# Altium schematic symbol library libreriaSch.SchLib: 392 symbols (part 2 of 2)
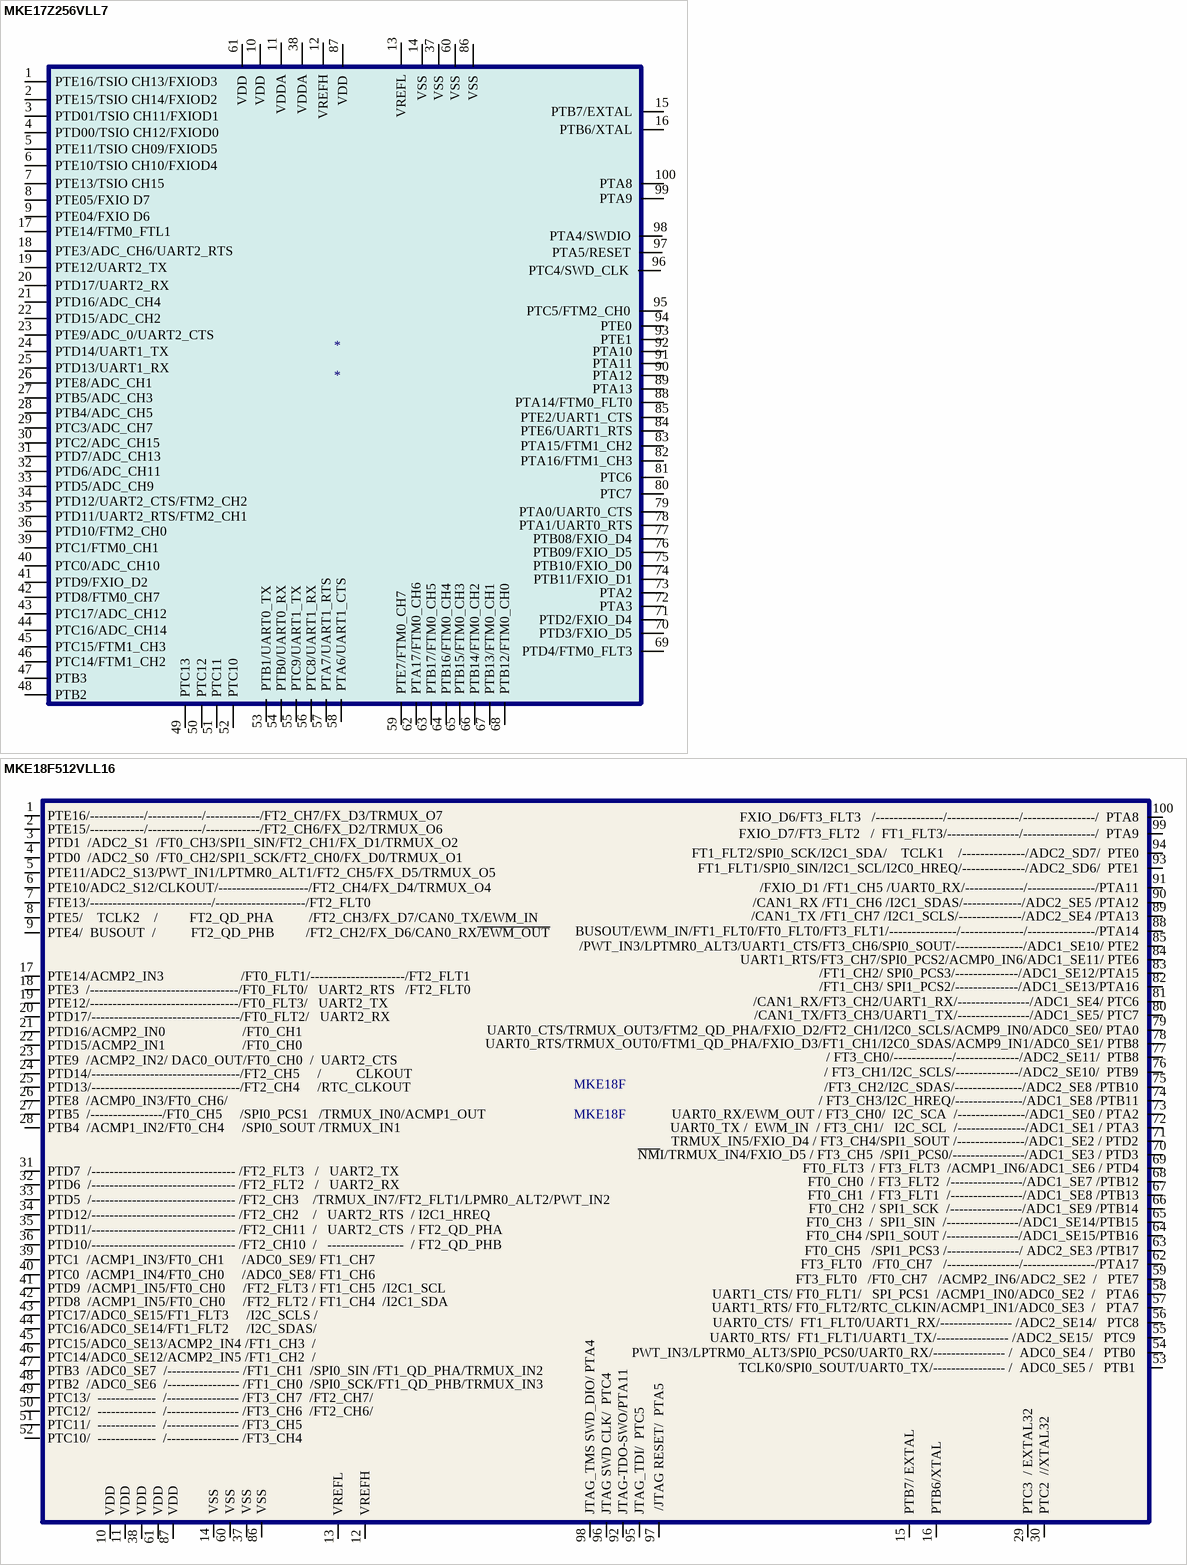
[diagram p16: symbols MKE17Z256VLL7 to MKE18F512VLL16]

## MKE17Z256VLL7
designator *
kINETICS MKE17Z
footprint Model Name (Footprint not found)
footprint LQFP_100
pins: 1 PTE16/TSIO CH13/FXIOD3, 2 PTE15/TSIO CH14/FXIOD2, 3 PTD01/TSIO CH11/FXIOD1, 4 PTD00/TSIO CH12/FXIOD0, 5 PTE11/TSIO CH09/FXIOD5, 6 PTE10/TSIO CH10/FXIOD4, 7 PTE13/TSIO CH15, 8 PTE05/FXIO D7, 9 PTE04/FXIO D6, 10 VDD, 11 VDDA, 12 VREFH, 13 VREFL, 14 VSS, 15 PTB7/EXTAL, 16 PTB6/XTAL, 17 PTE14/FTM0_FTL1, 18 PTE3/ADC_CH6/UART2_RTS, 19 PTE12/UART2_TX, 20 PTD17/UART2_RX, 21 PTD16/ADC_CH4, 22 PTD15/ADC_CH2, 23 PTE9/ADC_0/UART2_CTS, 24 PTD14/UART1_TX, 25 PTD13/UART1_RX, 26 PTE8/ADC_CH1, 27 PTB5/ADC_CH3, 28 PTB4/ADC_CH5, 29 PTC3/ADC_CH7, 30 PTC2/ADC_CH15, 31 PTD7/ADC_CH13, 32 PTD6/ADC_CH11, 33 PTD5/ADC_CH9, 34 PTD12/UART2_CTS/FTM2_CH2, 35 PTD11/UART2_RTS/FTM2_CH1, 36 PTD10/FTM2_CH0, 37 VSS, 38 VDDA, 39 PTC1/FTM0_CH1, 40 PTC0/ADC_CH10, 41 PTD9/FXIO_D2, 42 PTD8/FTM0_CH7, 43 PTC17/ADC_CH12, 44 PTC16/ADC_CH14, 45 PTC15/FTM1_CH3, 46 PTC14/FTM1_CH2, 47 PTB3, 48 PTB2, 49 PTC13, 50 PTC12, 51 PTC11, 52 PTC10, 53 PTB1/UART0_TX, 54 PTB0/UART0_RX, 55 PTC9/UART1_TX, 56 PTC8/UART1_RX, 57 PTA7/UART1_RTS, 58 PTA6/UART1_CTS, 59 PTE7/FTM0_CH7, 60 VSS, 61 VDD, 62 PTA17/FTM0_CH6, 63 PTB17/FTM0_CH5, 64 PTB16/FTM0_CH4, 65 PTB15/FTM0_CH3, 66 PTB14/FTM0_CH2, 67 PTB13/FTM0_CH1, 68 PTB12/FTM0_CH0, 69 PTD4/FTM0_FLT3, 70 PTD3/FXIO_D5, 71 PTD2/FXIO_D4, 72 PTA3, 73 PTA2, 74 PTB11/FXIO_D1, 75 PTB10/FXIO_D0, 76 PTB09/FXIO_D5, 77 PTB08/FXIO_D4, 78 PTA1/UART0_RTS, 79 PTA0/UART0_CTS, 80 PTC7, 81 PTC6, 82 PTA16/FTM1_CH3, 83 PTA15/FTM1_CH2, 84 PTE6/UART1_RTS, 85 PTE2/UART1_CTS, 86 VSS, 87 VDD, 88 PTA14/FTM0_FLT0, 89 PTA13, 90 PTA12, 91 PTA11, 92 PTA10, 93 PTE1, 94 PTE0, 95 PTC5/FTM2_CH0, 96 PTC4/SWD_CLK, 97 PTA5/RESET, 98 PTA4/SWDIO, 99 PTA9, 100 PTA8

## MKE18F512VLL16
designator MKE18F, comment MKE18F
footprint LQFP_100
pins: 1 PTE16/------------/------------/------------/FT2_CH7/FX_D3/TRMUX_O7, 2 PTE15/------------/------------/------------/FT2_CH6/FX_D2/TRMUX_O6, 3 PTD1  /ADC2_S1  /FT0_CH3/SPI1_SIN/FT2_CH1/FX_D1/TRMUX_O2, 4 PTD0  /ADC2_S0  /FT0_CH2/SPI1_SCK/FT2_CH0/FX_D0/TRMUX_O1, 5 PTE11/ADC2_S13/PWT_IN1/LPTMR0_ALT1/FT2_CH5/FX_D5/TRMUX_O5, 6 PTE10/ADC2_S12/CLKOUT/--------------------/FT2_CH4/FX_D4/TRMUX_O4, 7 FTE13/---------------------------/--------------------/FT2_FLT0, 8 PTE5/    TCLK2    /         FT2_QD_PHA          /FT2_CH3/FX_D7/CAN0_TX/EWM_IN, 9 PTE4/  BUSOUT  /          FT2_QD_PHB         /FT2_CH2/FX_D6/CAN0_RX~{/EWM_OUT}, 10 VDD, 11 VDD, 12 VREFH, 13 VREFL, 14 VSS, 15 PTB7/ EXTAL, 16 PTB6/XTAL, 17 PTE14/ACMP2_IN3                      /FT0_FLT1/---------------------/FT2_FLT1, 18 PTE3  /---------------------------------/FT0_FLT0/   UART2_RTS   /FT2_FLT0, 19 PTE12/---------------------------------/FT0_FLT3/   UART2_TX     , 20 PTD17/---------------------------------/FT0_FLT2/   UART2_RX     , 21 PTD16/ACMP2_IN0                      /FT0_CH1  , 22 PTD15/ACMP2_IN1                      /FT0_CH0  , 23 PTE9  /ACMP2_IN2/ DAC0_OUT/FT0_CH0  /  UART2_CTS  , 24 PTD14/---------------------------------/FT2_CH5     /          CLKOUT, 25 PTD13/---------------------------------/FT2_CH4     /RTC_CLKOUT, 26 PTE8  /ACMP0_IN3/FT0_CH6/  , 27 PTB5  /----------------/FT0_CH5     /SPI0_PCS1   /TRMUX_IN0/ACMP1_OUT, 28 PTB4  /ACMP1_IN2/FT0_CH4     /SPI0_SOUT /TRMUX_IN1, 29 PTC3  / EXTAL32, 30 PTC2  //XTAL32, 31 PTD7  /-------------------------------- /FT2_FLT3   /   UART2_TX   , 32 PTD6  /-------------------------------- /FT2_FLT2   /   UART2_RX   , 33 PTD5  /-------------------------------- /FT2_CH3    /TRMUX_IN7/FT2_FLT1/LPMR0_ALT2/PWT_IN2, 34 PTD12/-------------------------------- /FT2_CH2    /   UART2_RTS  / I2C1_HREQ   , 35 PTD11/-------------------------------- /FT2_CH11  /   UART2_CTS  / FT2_QD_PHA  , 36 PTD10/-------------------------------- /FT2_CH10  /   -----------------  / FT2_QD_PHB  , 37 VSS, 38 VDD, 39 PTC1  /ACMP1_IN3/FT0_CH1     /ADC0_SE9/ FT1_CH7, 40 PTC0  /ACMP1_IN4/FT0_CH0     /ADC0_SE8/ FT1_CH6, 41 PTD9  /ACMP1_IN5/FT0_CH0     /FT2_FLT3 / FT1_CH5  /I2C1_SCL, 42 PTD8  /ACMP1_IN5/FT0_CH0     /FT2_FLT2 / FT1_CH4  /I2C1_SDA, 43 PTC17/ADC0_SE15/FT1_FLT3     /I2C_SCLS /, 44 PTC16/ADC0_SE14/FT1_FLT2     /I2C_SDAS/, 45 PTC15/ADC0_SE13/ACMP2_IN4 /FT1_CH3  /, 46 PTC14/ADC0_SE12/ACMP2_IN5 /FT1_CH2  /, 47 PTB3  /ADC0_SE7  /---------------- /FT1_CH1  /SPI0_SIN /FT1_QD_PHA/TRMUX_IN2, 48 PTB2  /ADC0_SE6  /---------------- /FT1_CH0  /SPI0_SCK/FT1_QD_PHB/TRMUX_IN3, 49 PTC13/  -------------  /---------------- /FT3_CH7  /FT2_CH7/, 50 PTC12/  -------------  /---------------- /FT3_CH6  /FT2_CH6/, 51 PTC11/  -------------  /---------------- /FT3_CH5, 52 PTC10/  -------------  /---------------- /FT3_CH4, 53 TCLK0/SPI0_SOUT/UART0_TX/---------------- /  ADC0_SE5 /   PTB1 , 54 PWT_IN3/LPTRM0_ALT3/SPI0_PCS0/UART0_RX/---------------- /  ADC0_SE4 /   PTB0 , 55 UART0_RTS/  FT1_FLT1/UART1_TX/---------------- /ADC2_SE15/   PTC9 , 56 UART0_CTS/  FT1_FLT0/UART1_RX/---------------- /ADC2_SE14/   PTC8, 57 UART1_RTS/ FT0_FLT2/RTC_CLKIN/ACMP1_IN1/ADC0_SE3  /   PTA7, 58 UART1_CTS/ FT0_FLT1/   SPI_PCS1  /ACMP1_IN0/ADC0_SE2  /   PTA6, 59      FT3_FLT0   /FT0_CH7   /ACMP2_IN6/ADC2_SE2  /   PTE7, 60 VSS, 61 VDD, 62      FT3_FLT0   /FT0_CH7   /----------------/----------------/PTA17, 63      FT0_CH5   /SPI1_PCS3 /----------------/ ADC2_SE3 /PTB17, 64      FT0_CH4 /SPI1_SOUT /----------------/ADC1_SE15/PTB16, 65      FT0_CH3  /  SPI1_SIN  /----------------/ADC1_SE14/PTB15, 66      FT0_CH2  / SPI1_SCK  /----------------/ADC1_SE9 /PTB14, 67      FT0_CH1  / FT3_FLT1  /----------------/ADC1_SE8 /PTB13, 68      FT0_CH0  / FT3_FLT2  /----------------/ADC1_SE7 /PTB12, 69      FT0_FLT3  / FT3_FLT3  /ACMP1_IN6/ADC1_SE6 / PTD4, 70 ~{NM}I/TRMUX_IN4/FXIO_D5 / FT3_CH5  /SPI1_PCS0/----------------/ADC1_SE3 / PTD3, 71 TRMUX_IN5/FXIO_D4 / FT3_CH4/SPI1_SOUT /---------------/ADC1_SE2 / PTD2, 72 UART0_TX /  EWM_IN  / FT3_CH1/   I2C_SCL  /---------------/ADC1_SE1 / PTA3, 73 UART0_RX/EWM_OUT / FT3_CH0/  I2C_SCA  /---------------/ADC1_SE0 / PTA2, 74  / FT3_CH3/I2C_HREQ/---------------/ADC1_SE8 /PTB11, 75  /FT3_CH2/I2C_SDAS/---------------/ADC2_SE8 /PTB10, 76  / FT3_CH1/I2C_SCLS/--------------/ADC2_SE10/  PTB9, 77  / FT3_CH0/-------------/--------------/ADC2_SE11/  PTB8, 78 UART0_RTS/TRMUX_OUT0/FTM1_QD_PHA/FXIO_D3/FT1_CH1/I2C0_SDAS/ACMP9_IN1/ADC0_SE1/ PTB8, 79 UART0_CTS/TRMUX_OUT3/FTM2_QD_PHA/FXIO_D2/FT2_CH1/I2C0_SCLS/ACMP9_IN0/ADC0_SE0/ PTA0, 80 /CAN1_TX/FT3_CH3/UART1_TX/----------------/ADC1_SE5/ PTC7, 81 /CAN1_RX/FT3_CH2/UART1_RX/----------------/ADC1_SE4/ PTC6, 82 /FT1_CH3/ SPI1_PCS2/--------------/ADC1_SE13/PTA16, 83 /FT1_CH2/ SPI0_PCS3/--------------/ADC1_SE12/PTA15, 84 UART1_RTS/FT3_CH7/SPI0_PCS2/ACMP0_IN6/ADC1_SE11/ PTE6, 85 /PWT_IN3/LPTMR0_ALT3/UART1_CTS/FT3_CH6/SPI0_SOUT/---------------/ADC1_SE10/ PTE2, 86 VSS, 87 VDD, 88 BUSOUT/EWM_IN/FT1_FLT0/FT0_FLT0/FT3_FLT1/---------------/--------------/---------------/PTA14, 89 /CAN1_TX /FT1_CH7 /I2C1_SCLS/--------------/ADC2_SE4 /PTA13, 90 /CAN1_RX /FT1_CH6 /I2C1_SDAS/-------------/ADC2_SE5 /PTA12, 91 /FXIO_D1 /FT1_CH5 /UART0_RX/-------------/---------------/PTA11, 92 JTAG-TDO-SWO/PTA11, 93 FT1_FLT1/SPI0_SIN/I2C1_SCL/I2C0_HREQ/--------------/ADC2_SD6/  PTE1, 94 FT1_FLT2/SPI0_SCK/I2C1_SDA/    TCLK1    /--------------/ADC2_SD7/  PTE0, 95 JTAG_TDI/  PTC5, 96 JTAG SWD CLK/  PTC4, 97  /JTAG RESET/  PTA5, 98 JTAG_TMS SWD_DIO/ PTA4, 99   FXIO_D7/FT3_FLT2   /  FT1_FLT3/----------------/----------------/  PTA9, 100   FXIO_D6/FT3_FLT3   /---------------/----------------/----------------/  PTA8

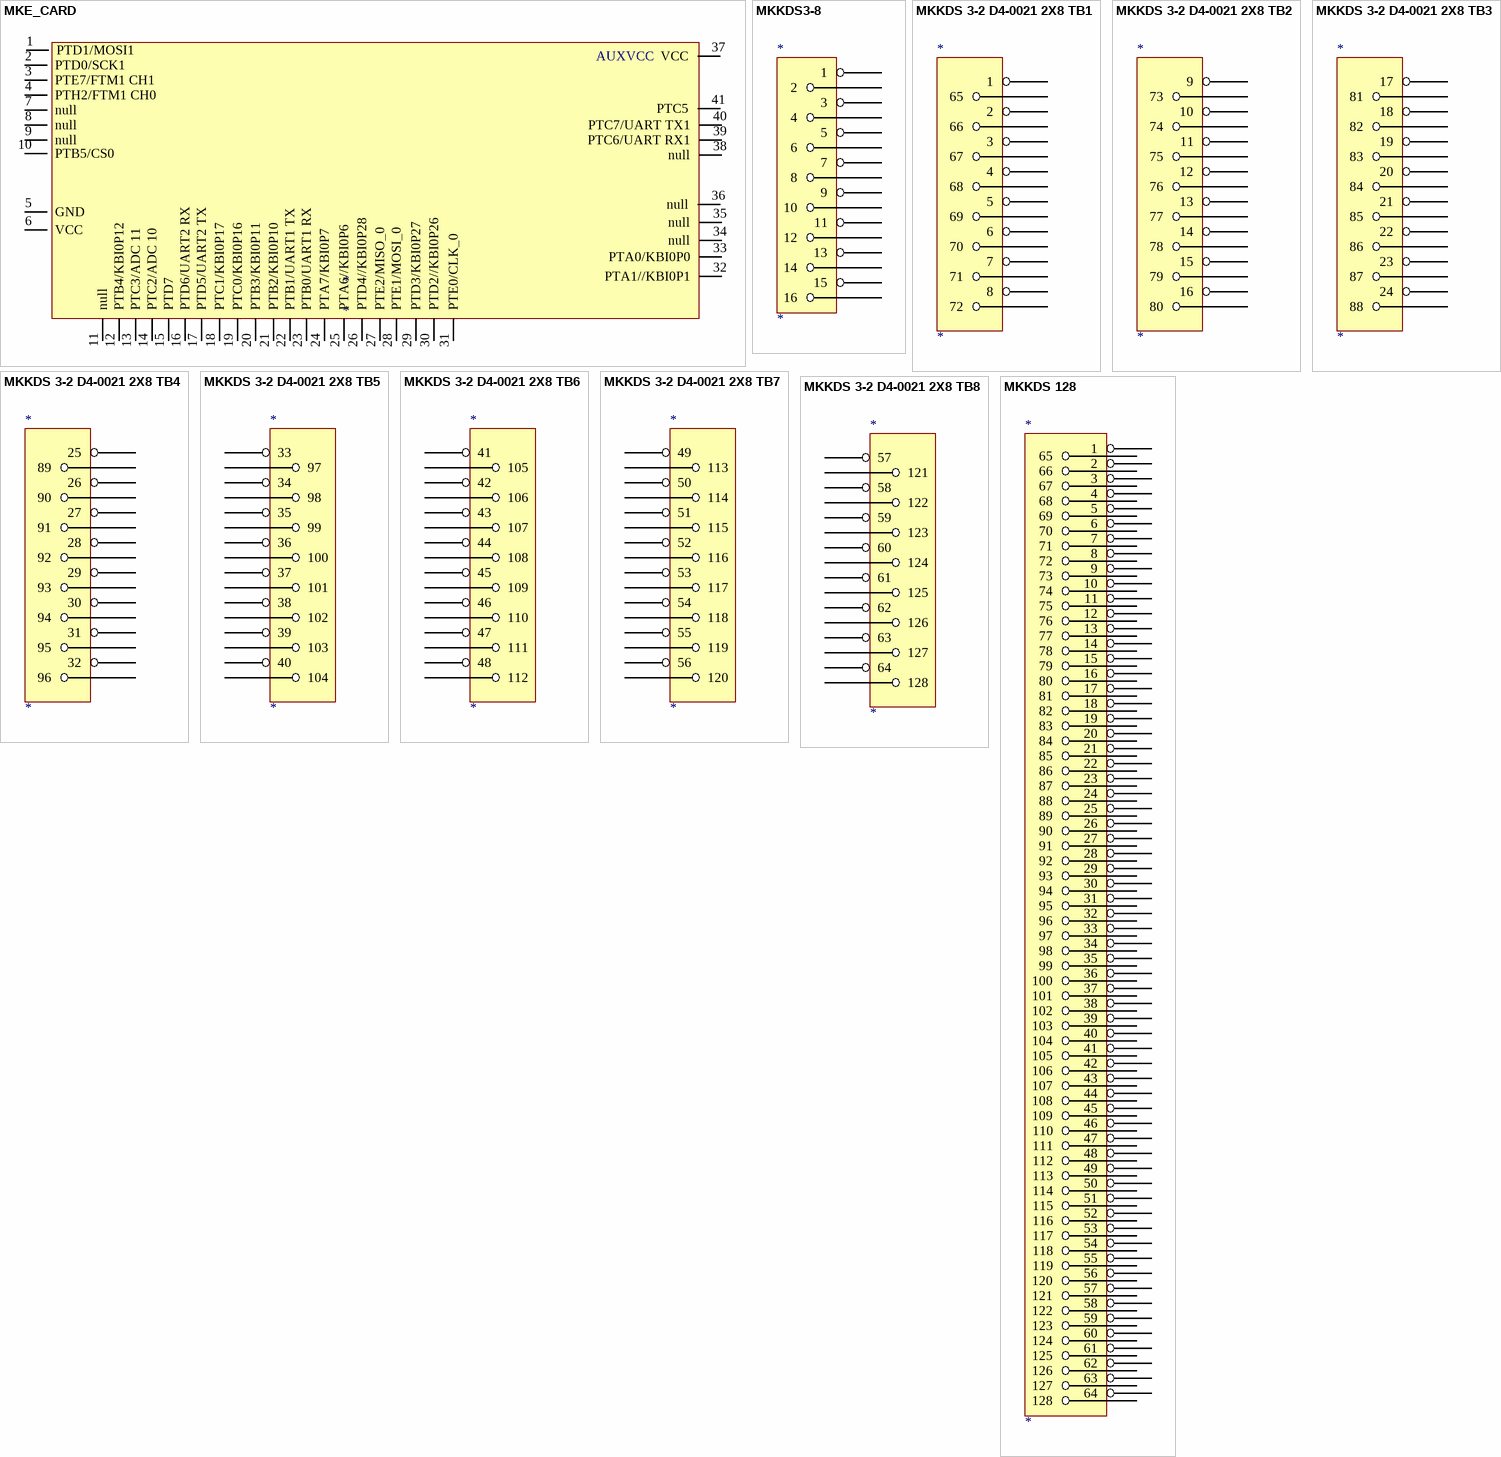
[diagram p10: symbols MKE_CARD to MKKDS 128]

## MKE_CARD
designator *
footprint MKE02ZBoard
pins: 1 PTD1/MOSI1, 2 PTD0/SCK1, 3 PTE7/FTM1 CH1, 4 PTH2/FTM1 CH0, 5 GND (power), 6 VCC (power), 7 null, 8 null, 9 null, 10 PTB5/CS0, 11 null, 12 PTB4/KBI0P12, 13 PTC3/ADC 11, 14 PTC2/ADC 10, 15 PTD7, 16 PTD6/UART2 RX, 17 PTD5/UART2 TX, 18 PTC1/KBI0P17, 19 PTC0/KBI0P16, 20 PTB3/KBI0P11, 21 PTB2/KBI0P10, 22 PTB1/UART1 TX, 23 PTB0/UART1 RX, 24 PTA7/KBI0P7, 25 PTA6//KBI0P6, 26 PTD4//KBI0P28, 27 PTE2/MISO_0, 28 PTE1/MOSI_0, 29 PTD3/KBI0P27, 30 PTD2//KBI0P26, 31 PTE0/CLK_0, 32 PTA1//KBI0P1, 33 PTA0/KBI0P0, 34 null, 35 null, 36 null, 37 VCC, 38 null, 39 PTC6/UART RX1, 40 PTC7/UART TX1, 41 PTC5
text: AUXVCC

## MKKDS3-8
designator *
footprint MKKDS3-8
pins: 1, 2, 3, 4, 5, 6, 7, 8, 9, 10, 11, 12, 13, 14, 15, 16

## MKKDS 3-2 D4-0021 2X8 TB1
designator *
footprint MKKDS3-2 D4-0021 TB1
pins: 1, 2, 3, 4, 5, 6, 7, 8, 65, 66, 67, 68, 69, 70, 71, 72

## MKKDS 3-2 D4-0021 2X8 TB2
designator *
footprint MKKDS3-2 D4-0021 TB2
pins: 9, 10, 11, 12, 13, 14, 15, 16, 73, 74, 75, 76, 77, 78, 79, 80

## MKKDS 3-2 D4-0021 2X8 TB3
designator *
footprint MKKDS3-2 D4-0021 TB3
pins: 17, 18, 19, 20, 21, 22, 23, 24, 81, 82, 83, 84, 85, 86, 87, 88

## MKKDS 3-2 D4-0021 2X8 TB4
designator *
footprint MKKDS3-2 D4-0021 TB4
pins: 25, 26, 27, 28, 29, 30, 31, 32, 89, 90, 91, 92, 93, 94, 95, 96

## MKKDS 3-2 D4-0021 2X8 TB5
designator *
footprint MKKDS3-2 D4-0021 TB5
pins: 33, 34, 35, 36, 37, 38, 39, 40, 97, 98, 99, 100, 101, 102, 103, 104

## MKKDS 3-2 D4-0021 2X8 TB6
designator *
footprint MKKDS3-2 D4-0021 TB6
pins: 41, 42, 43, 44, 45, 46, 47, 48, 105, 106, 107, 108, 109, 110, 111, 112

## MKKDS 3-2 D4-0021 2X8 TB7
designator *
footprint MKKDS3-2 D4-0021 TB7
pins: 49, 50, 51, 52, 53, 54, 55, 56, 113, 114, 115, 116, 117, 118, 119, 120

## MKKDS 3-2 D4-0021 2X8 TB8
designator *
footprint MKKDS3-2 D4-0021 TB8
pins: 57, 58, 59, 60, 61, 62, 63, 64, 121, 122, 123, 124, 125, 126, 127, 128

## MKKDS 128
designator *
footprint MKKDS128
pins: 1, 2, 3, 4, 5, 6, 7, 8, 9, 10, 11, 12, 13, 14, 15, 16, 17, 18, 19, 20, 21, 22, 23, 24, 25, 26, 27, 28, 29, 30, 31, 32, 33, 34, 35, 36, 37, 38, 39, 40, 41, 42, 43, 44, 45, 46, 47, 48, 49, 50, 51, 52, 53, 54, 55, 56, 57, 58, 59, 60, 61, 62, 63, 64, 65, 66, 67, 68, 69, 70, 71, 72, 73, 74, 75, 76, 77, 78, 79, 80, 81, 82, 83, 84, 85, 86, 87, 88, 89, 90, 91, 92, 93, 94, 95, 96, 97, 98, 99, 100, 101, 102, 103, 104, 105, 106, 107, 108, 109, 110, 111, 112, 113, 114, 115, 116, 117, 118, 119, 120, 121, 122, 123, 124, 125, 126, 127, 128

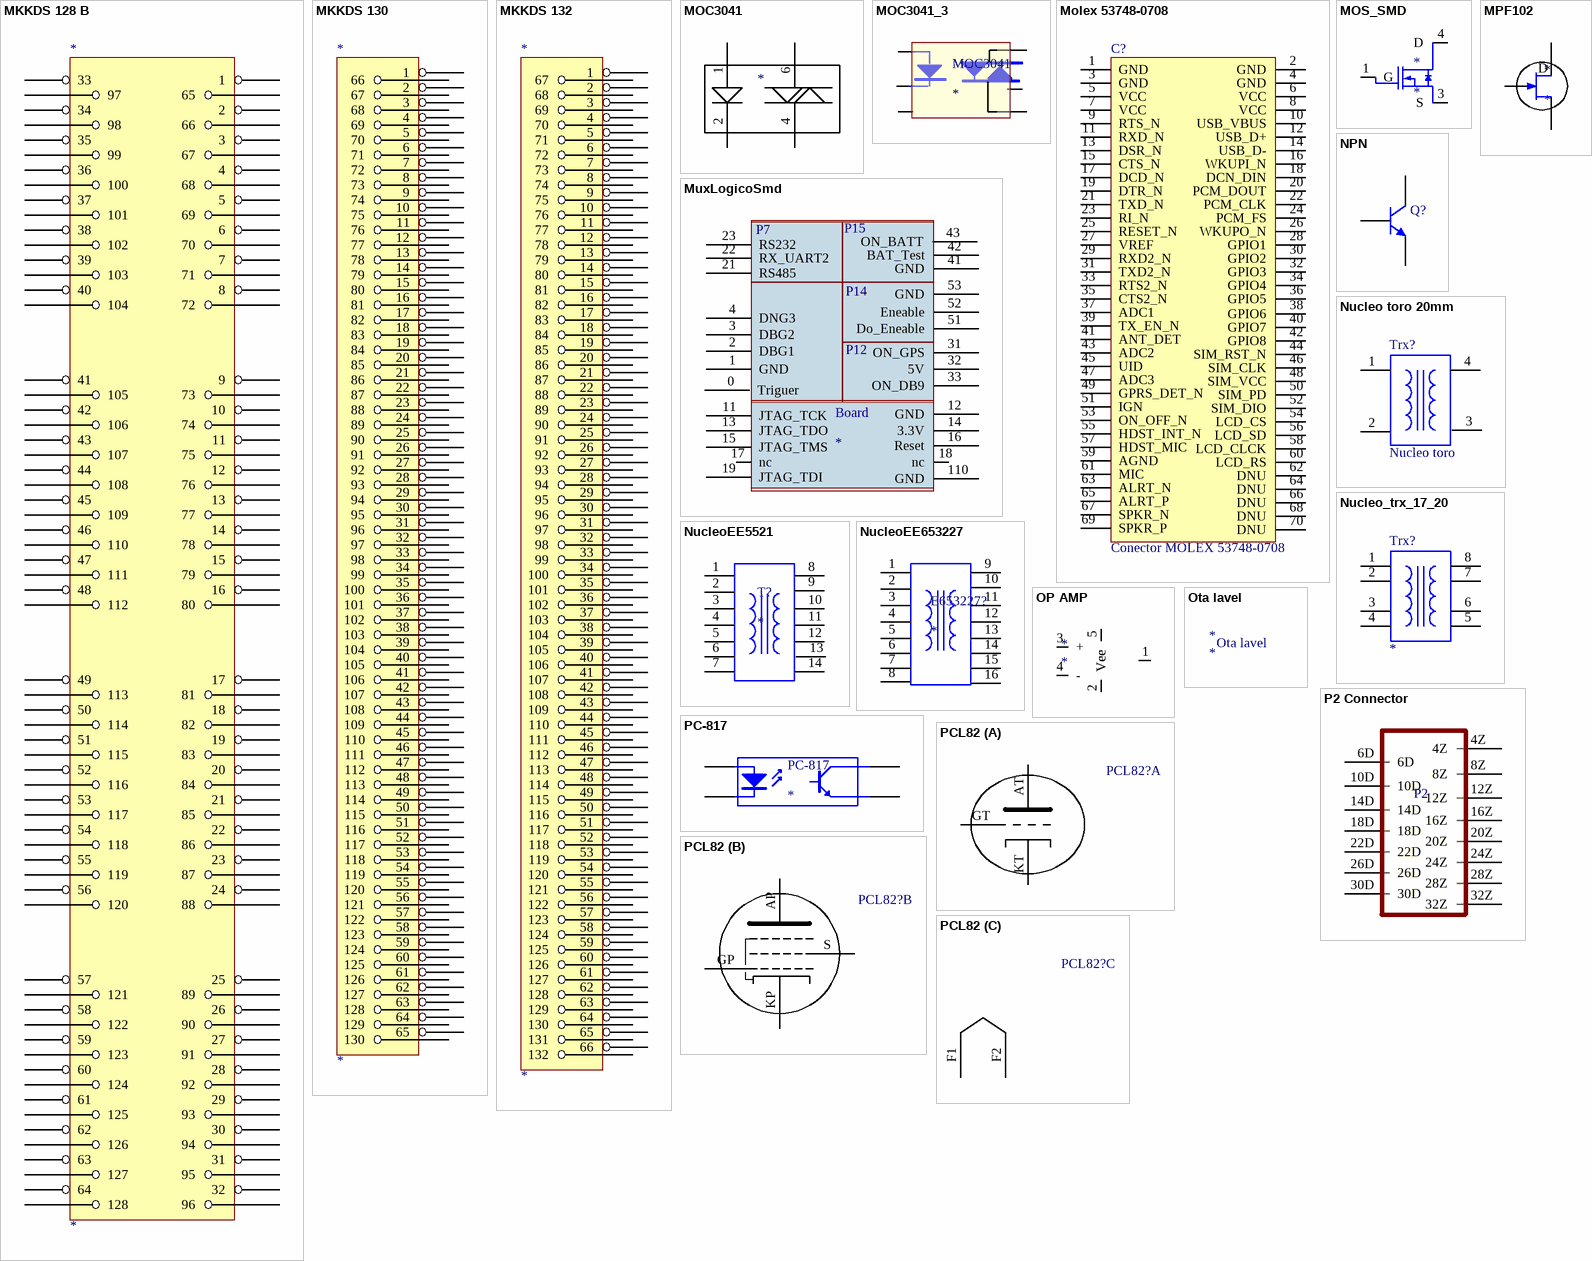
[diagram p11: symbols MKKDS 128 B to PCL82]

## MKKDS 128 B
designator *
footprint MKKDS128
pins: 1, 2, 3, 4, 5, 6, 7, 8, 9, 10, 11, 12, 13, 14, 15, 16, 17, 18, 19, 20, 21, 22, 23, 24, 25, 26, 27, 28, 29, 30, 31, 32, 33, 34, 35, 36, 37, 38, 39, 40, 41, 42, 43, 44, 45, 46, 47, 48, 49, 50, 51, 52, 53, 54, 55, 56, 57, 58, 59, 60, 61, 62, 63, 64, 65, 66, 67, 68, 69, 70, 71, 72, 73, 74, 75, 76, 77, 78, 79, 80, 81, 82, 83, 84, 85, 86, 87, 88, 89, 90, 91, 92, 93, 94, 95, 96, 97, 98, 99, 100, 101, 102, 103, 104, 105, 106, 107, 108, 109, 110, 111, 112, 113, 114, 115, 116, 117, 118, 119, 120, 121, 122, 123, 124, 125, 126, 127, 128

## MKKDS 130
designator *
footprint MKKDS130
pins: 1, 2, 3, 4, 5, 6, 7, 8, 9, 10, 11, 12, 13, 14, 15, 16, 17, 18, 19, 20, 21, 22, 23, 24, 25, 26, 27, 28, 29, 30, 31, 32, 33, 34, 35, 36, 37, 38, 39, 40, 41, 42, 43, 44, 45, 46, 47, 48, 49, 50, 51, 52, 53, 54, 55, 56, 57, 58, 59, 60, 61, 62, 63, 64, 65, 66, 67, 68, 69, 70, 71, 72, 73, 74, 75, 76, 77, 78, 79, 80, 81, 82, 83, 84, 85, 86, 87, 88, 89, 90, 91, 92, 93, 94, 95, 96, 97, 98, 99, 100, 101, 102, 103, 104, 105, 106, 107, 108, 109, 110, 111, 112, 113, 114, 115, 116, 117, 118, 119, 120, 121, 122, 123, 124, 125, 126, 127, 128, 129, 130

## MKKDS 132
designator *
pins: 1, 2, 3, 4, 5, 6, 7, 8, 9, 10, 11, 12, 13, 14, 15, 16, 17, 18, 19, 20, 21, 22, 23, 24, 25, 26, 27, 28, 29, 30, 31, 32, 33, 34, 35, 36, 37, 38, 39, 40, 41, 42, 43, 44, 45, 46, 47, 48, 49, 50, 51, 52, 53, 54, 55, 56, 57, 58, 59, 60, 61, 62, 63, 64, 65, 66, 67, 68, 69, 70, 71, 72, 73, 74, 75, 76, 77, 78, 79, 80, 81, 82, 83, 84, 85, 86, 87, 88, 89, 90, 91, 92, 93, 94, 95, 96, 97, 98, 99, 100, 101, 102, 103, 104, 105, 106, 107, 108, 109, 110, 111, 112, 113, 114, 115, 116, 117, 118, 119, 120, 121, 122, 123, 124, 125, 126, 127, 128, 129, 130, 131, 132

## MOC3041
designator *  (value not drawn)
Optoisolator
footprint DIP6
pins: 1, 2, 4, 6

## MOC3041_3
designator MOC3041
footprint DIP6
pins: 1, 2, 3, 4, 5, 6

## Molex 53748-0708
designator C?, comment Conector MOLEX 53748-0708
Conector de 70 pines del modem G24 (Hembra)
footprint Molex 53748-0708
pins: 1 GND, 2 GND, 3 GND, 4 GND, 5 VCC, 6 VCC, 7 VCC, 8 VCC, 9 RTS_N, 10 USB_VBUS, 11 RXD_N, 12 USB_D+, 13 DSR_N, 14 USB_D-, 15 CTS_N, 16 WKUPI_N, 17 DCD_N, 18 DCN_DIN, 19 DTR_N, 20 PCM_DOUT, 21 TXD_N, 22 PCM_CLK, 23 RI_N, 24 PCM_FS, 25 RESET_N, 26 WKUPO_N, 27 VREF, 28 GPIO1, 29 RXD2_N, 30 GPIO2, 31 TXD2_N, 32 GPIO3, 33 RTS2_N, 34 GPIO4, 35 CTS2_N, 36 GPIO5, 37 ADC1, 38 GPIO6, 39 TX_EN_N, 40 GPIO7, 41 ANT_DET, 42 GPIO8, 43 ADC2, 44 SIM_RST_N, 45 UID, 46 SIM_CLK, 47 ADC3, 48 SIM_VCC, 49 GPRS_DET_N, 50 SIM_PD, 51 IGN, 52 SIM_DIO, 53 ON_OFF_N, 54 LCD_CS, 55 HDST_INT_N, 56 LCD_SD, 57 HDST_MIC, 58 LCD_CLCK, 59 AGND, 60 LCD_RS, 61 MIC, 62 DNU, 63 ALRT_N, 64 DNU, 65 ALRT_P, 66 DNU, 67 SPKR_N, 68 DNU, 69 SPKR_P, 70 DNU

## MOS_SMD
designator *
footprint D2PACK_REG
pins: 1 G, 3 S, 4 D

## MPF102
designator *
footprint TO-92
pins: 1 D, 2 S, 3 G

## MuxLogicoSmd
designator Board
footprint MuxLogic
pins: 0 Triguer, 1 GND, 2 DBG1, 3 DBG2, 4 DNG3, 11 JTAG_TCK, 12 GND, 13 JTAG_TDO, 14 3.3V, 15 JTAG_TMS, 16 Reset, 17 nc, 18 nc, 19 JTAG_TDI, 21 RS485, 22 RX_UART2, 23 RS232, 31 ON_GPS, 32 5V, 33 ON_DB9, 41 GND, 42 BAT_Test, 43 ON_BATT, 51 Do_Eneable, 52 Eneable, 53 GND, 110 GND
text: P15; P7; P14; P12

## NPN
designator Q?
NPN Bipolar Transistor; Published: 8-Jun-2000; LatestRevisionDate: 17-Jul-2002; LatestRevisionNote: Re-released for DXP Platform.; PackageReference: TO-226; Publisher: Altium Limited; Code_JEDEC: TO-226-AA
simulation model NPN
signal-integrity model NPN
footprint TO-226 (modificado) (TO, Flat Index; 3 In-Line, Axial Leads; Body Dia. 4.8mm; Leads 0.55 x 0.51 mm (max))
pins: 1 C, 2 B, 3 E

## Nucleo toro 20mm
designator Trx?, comment Nucleo toro
footprint Toro20mm (Toro DE 20mm)
pins: 1, 2, 3, 4

## Nucleo_trx_17_20
designator Trx?
Transformador E_E
footprint Trx12x20
pins: 1, 2, 3, 4, 5, 6, 7, 8

## NucleoEE5521
designator T?
footprint EE5521
pins: 1, 2, 3, 4, 5, 6, 7, 8, 9, 10, 11, 12, 13, 14

## NucleoEE653227
designator E653227?
footprint EE653227
pins: 1, 2, 3, 4, 5, 6, 7, 8, 9, 10, 11, 12, 13, 14, 15, 16

## OP AMP
designator *
footprint SOT23-5
pins: 1 43, 2 Vee, 3 +, 4 -, 5 Vcc

## Ota lavel
designator *
footprint OTA

## P2 Connector
designator P2, comment DIN15PO_MALE  (value not drawn)
footprint P2_Footprint
pins: 4Z, 6D, 8Z, 10D, 12Z, 14D, 16Z, 18D, 20Z, 22D, 24Z, 26D, 28Z, 30D, 32Z

## PC-817
designator PC-817
footprint DIP-4
pins: 1 A, 2 K, 3 E, 4 C

## PCL82
designator PCL82?  (value not drawn)
Válvula
footprint Noval_Tube; pin to pad AP>6 AT>9 F1>4 F2>5 GP>3 GT>1 KP>2 KT>8 S>7
part A pins: AT A, GT G, KT K
part B pins: AP A, GP A, KP K, S
part C pins: F1 H (power), F2 H (power)

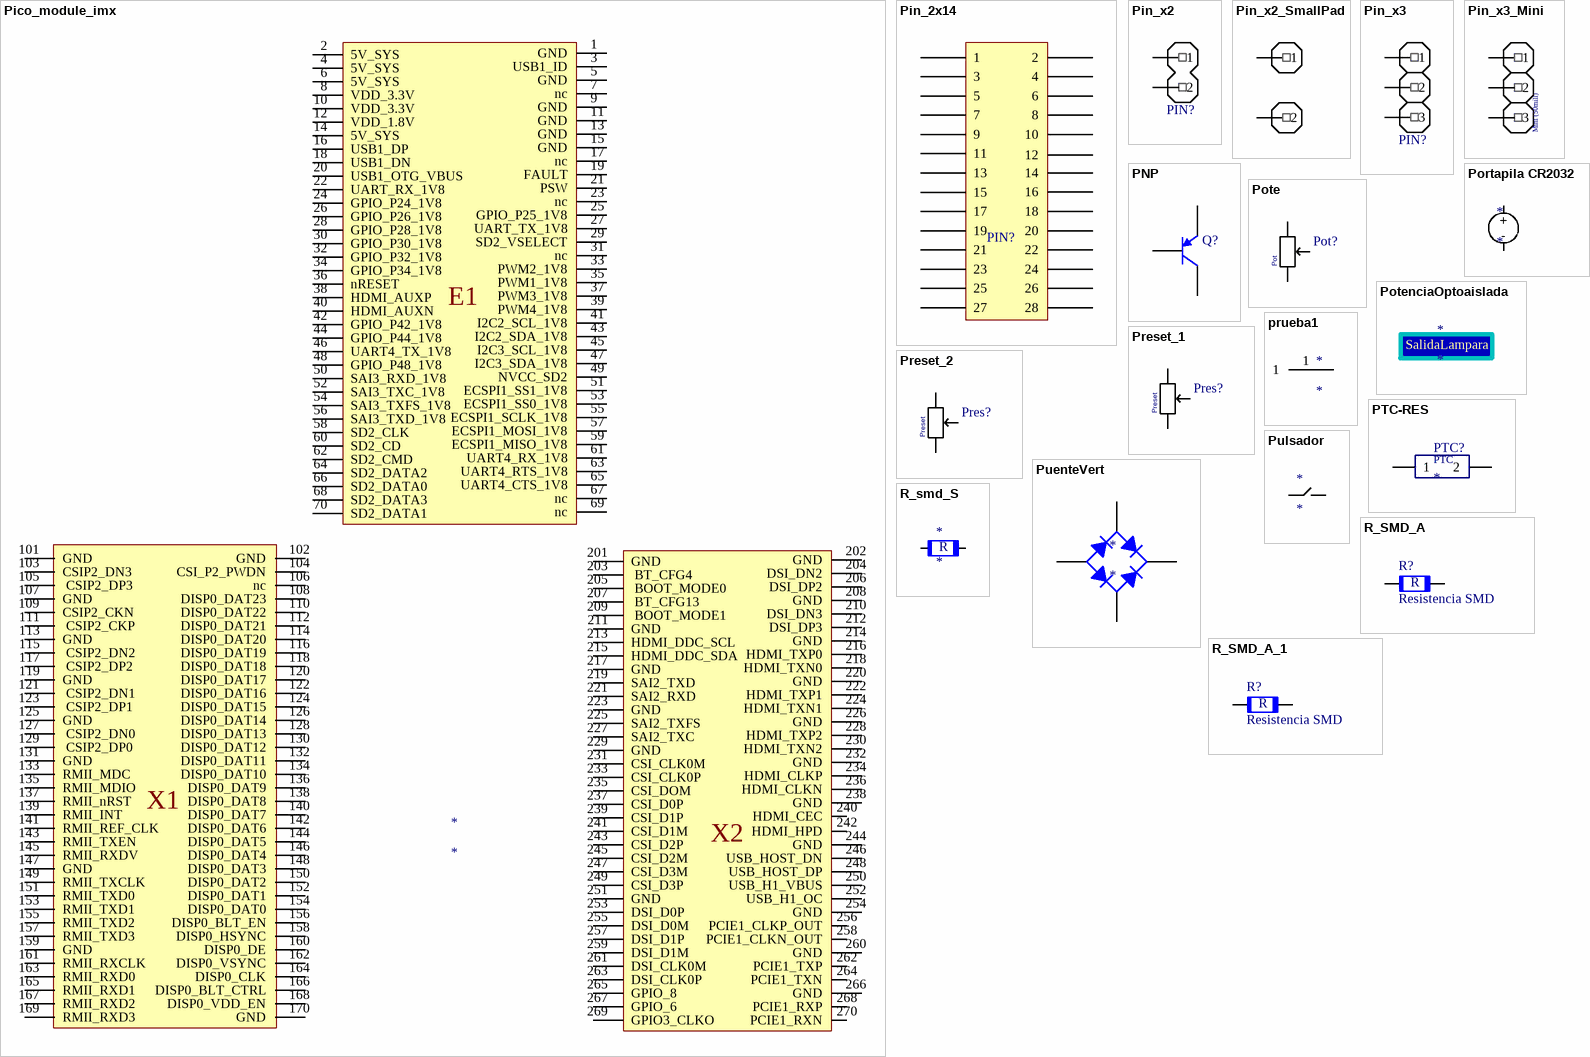
[diagram p12: symbols Pico_module_imx to R_smd_S]

## Pico_module_imx
designator *
footprint Pico_pcb
pins: 1 GND, 2 5V_SYS, 3 USB1_ID, 4 5V_SYS, 5 GND, 6 5V_SYS, 7 nc, 8 VDD_3.3V, 9 GND, 10 VDD_3.3V, 11 GND, 12 VDD_1.8V, 13 GND, 14 5V_SYS, 15 GND, 16 USB1_DP, 17 nc, 18 USB1_DN, 19 FAULT, 20 USB1_OTG_VBUS, 21 PSW, 22 UART_RX_1V8, 23 nc, 24 GPIO_P24_1V8, 25 GPIO_P25_1V8, 26 GPIO_P26_1V8, 27 UART_TX_1V8, 28 GPIO_P28_1V8, 29 SD2_VSELECT, 30 GPIO_P30_1V8, 31 nc, 32 GPIO_P32_1V8, 33 PWM2_1V8, 34 GPIO_P34_1V8, 35 PWM1_1V8, 36 nRESET, 37 PWM3_1V8, 38 HDMI_AUXP, 39 PWM4_1V8, 40 HDMI_AUXN, 41 I2C2_SCL_1V8, 42 GPIO_P42_1V8, 43 I2C2_SDA_1V8, 44 GPIO_P44_1V8, 45 I2C3_SCL_1V8, 46 UART4_TX_1V8, 47 I2C3_SDA_1V8, 48 GPIO_P48_1V8, 49 NVCC_SD2, 50 SAI3_RXD_1V8, 51 ECSPI1_SS1_1V8, 52 SAI3_TXC_1V8, 53 ECSPI1_SS0_1V8, 54 SAI3_TXFS_1V8, 55 ECSPI1_SCLK_1V8, 56 SAI3_TXD_1V8, 57 ECSPI1_MOSI_1V8, 58 SD2_CLK, 59 ECSPI1_MISO_1V8, 60 SD2_CD, 61 UART4_RX_1V8, 62 SD2_CMD, 63 UART4_RTS_1V8, 64 SD2_DATA2, 65 UART4_CTS_1V8, 66 SD2_DATA0, 67 nc, 68 SD2_DATA3, 69 nc, 70 SD2_DATA1, 101 GND, 102 GND, 103 CSIP2_DN3, 104 CSI_P2_PWDN, 105  CSIP2_DP3, 106 nc, 107 GND, 108 DISP0_DAT23, 109 CSIP2_CKN, 110 DISP0_DAT22, 111  CSIP2_CKP, 112 DISP0_DAT21, 113 GND, 114 DISP0_DAT20, 115  CSIP2_DN2, 116 DISP0_DAT19, 117  CSIP2_DP2, 118 DISP0_DAT18, 119 GND, 120 DISP0_DAT17, 121  CSIP2_DN1, 122 DISP0_DAT16, 123  CSIP2_DP1, 124 DISP0_DAT15, 125 GND, 126 DISP0_DAT14, 127  CSIP2_DN0, 128 DISP0_DAT13, 129  CSIP2_DP0, 130 DISP0_DAT12, 131 GND, 132 DISP0_DAT11, 133 RMII_MDC, 134 DISP0_DAT10, 135 RMII_MDIO, 136 DISP0_DAT9, 137 RMII_nRST, 138 DISP0_DAT8, 139 RMII_INT, 140 DISP0_DAT7, 141 RMII_REF_CLK, 142 DISP0_DAT6, 143 RMII_TXEN, 144 DISP0_DAT5, 145 RMII_RXDV, 146 DISP0_DAT4, 147 GND, 148 DISP0_DAT3, 149 RMII_TXCLK, 150 DISP0_DAT2, 151 RMII_TXD0, 152 DISP0_DAT1, 153 RMII_TXD1, 154 DISP0_DAT0, 155 RMII_TXD2, 156 DISP0_BLT_EN, 157 RMII_TXD3, 158 DISP0_HSYNC, 159 GND, 160 DISP0_DE, 161 RMII_RXCLK, 162 DISP0_VSYNC, 163 RMII_RXD0, 164 DISP0_CLK, 165 RMII_RXD1, 166 DISP0_BLT_CTRL, 167 RMII_RXD2, 168 DISP0_VDD_EN, 169 RMII_RXD3, 170 GND, 201 GND, 202 GND, 203  BT_CFG4, 204 DSI_DN2, 205  BOOT_MODE0, 206 DSI_DP2, 207  BT_CFG13, 208 GND, 209  BOOT_MODE1, 210 DSI_DN3, 211 GND, 212 DSI_DP3, 213 HDMI_DDC_SCL, 214 GND, 215 HDMI_DDC_SDA, 216 HDMI_TXP0, 217 GND, 218 HDMI_TXN0, 219 SAI2_TXD, 220 GND, 221 SAI2_RXD, 222 HDMI_TXP1, 223 GND, 224 HDMI_TXN1, 225 SAI2_TXFS, 226 GND, 227 SAI2_TXC, 228 HDMI_TXP2, 229 GND, 230 HDMI_TXN2, 231 CSI_CLK0M, 232 GND, 233 CSI_CLK0P, 234 HDMI_CLKP, 235 CSI_DOM, 236 HDMI_CLKN, 237 CSI_D0P, 238 GND, 239 CSI_D1P, 240 HDMI_CEC, 241 CSI_D1M, 242 HDMI_HPD, 243 CSI_D2P, 244 GND, 245 CSI_D2M, 246 USB_HOST_DN, 247 CSI_D3M, 248 USB_HOST_DP, 249 CSI_D3P, 250 USB_H1_VBUS, 251 GND, 252 USB_H1_OC, 253 DSI_D0P, 254 GND, 255 DSI_D0M, 256 PCIE1_CLKP_OUT, 257 DSI_D1P, 258 PCIE1_CLKN_OUT, 259 DSI_D1M, 260 GND, 261 DSI_CLK0M, 262 PCIE1_TXP, 263 DSI_CLK0P, 264 PCIE1_TXN, 265 GPIO_8, 266 GND, 267 GPIO_6, 268 PCIE1_RXP, 269 GPIO3_CLKO, 270 PCIE1_RXN
text: E1; X1; X2

## Pin_2x14
designator PIN?  (value not drawn)
Tira de pines dobles
footprint Pin_x3
pins: 1, 1 28, 2, 3, 4, 5, 6, 7, 8, 9, 10, 11, 12, 13, 14, 15, 16, 17, 18, 19, 20, 21, 22, 23, 24, 25, 26, 27
1 alternate drawing of the same symbol

## Pin_x2
designator PIN?  (value not drawn)
Tira de pines simples
footprint Pin_x2
pins: 1, 2

## Pin_x2_SmallPad
designator PIN?  (value not drawn)
Tira de pines
footprint Pin_x2_SmallPad
pins: 1, 2

## Pin_x3
designator PIN?  (value not drawn)
Tira de pines simples
footprint Pin_x3
pins: 1, 2, 3

## Pin_x3_Mini
designator PIN?  (value not drawn)
tira de pines simples
footprint Pin_x3_Mini
pins: 1, 2, 3
text: Mini (50mill)

## PNP
designator Q?
PNP Bipolar Transistor; Published: 8-Jun-2000; LatestRevisionDate: 17-Jul-2002; LatestRevisionNote: Re-released for DXP Platform.; PackageReference: SOT-23B; Publisher: Altium Limited; Code_JEDEC: SOT-23
simulation model PNP
signal-integrity model PNP
footprint TO-226 (modificado) (TO, Flat Index; 3 In-Line, Axial Leads; Body Dia. 4.8mm; Leads 0.55 x 0.51 mm (max))
pins: 1 C, 2 B, 3 E

## Portapila CR2032
designator *
footprint Portapila CR2032 - duplicate
footprint Portapila CR2032
pins: 0 +, 1 -

## Pote
designator Pot?  (value not drawn)
Potenciometro
footprint Potenciometro
pins: 1, 2, Cur
text: Pot

## PotenciaOptoaislada
designator *
footprint PotenciaOpto
text: SalidaLampara

## Preset_1
designator Pres?  (value not drawn)
Preset multivuelta ajustable
footprint Preset_1
pins: 1, 2, Cur
text: Preset

## Preset_2
designator Pres?  (value not drawn)
preset multivuelta ajustable
footprint Preset_2
pins: 1, 2, Cur
text: Preset

## prueba1
designator *
footprint PCBComponent_1
pins: 1

## PTC-RES
designator PTC?
MF-MSMF030-2
footprint PTC-Style1
pins: 1, 2
text: PTC

## PuenteVert
designator *
footprint PuenteVert (Puente de Diodos Vertical)
pins: 1 K, 2 C, 3 A, 4 C

## Pulsador
designator *
Pulsador
footprint Pulsador
pins: 0, 1

## R_SMD_A
designator R?, comment Resistencia SMD
footprint R_SMD
pins: 1, 2
text: R

## R_SMD_A_1
designator R?, comment Resistencia SMD
footprint R_SMD
pins: 1, 2
text: R

## R_smd_S
designator *
footprint R_SMD
pins: 1, 2
text: R

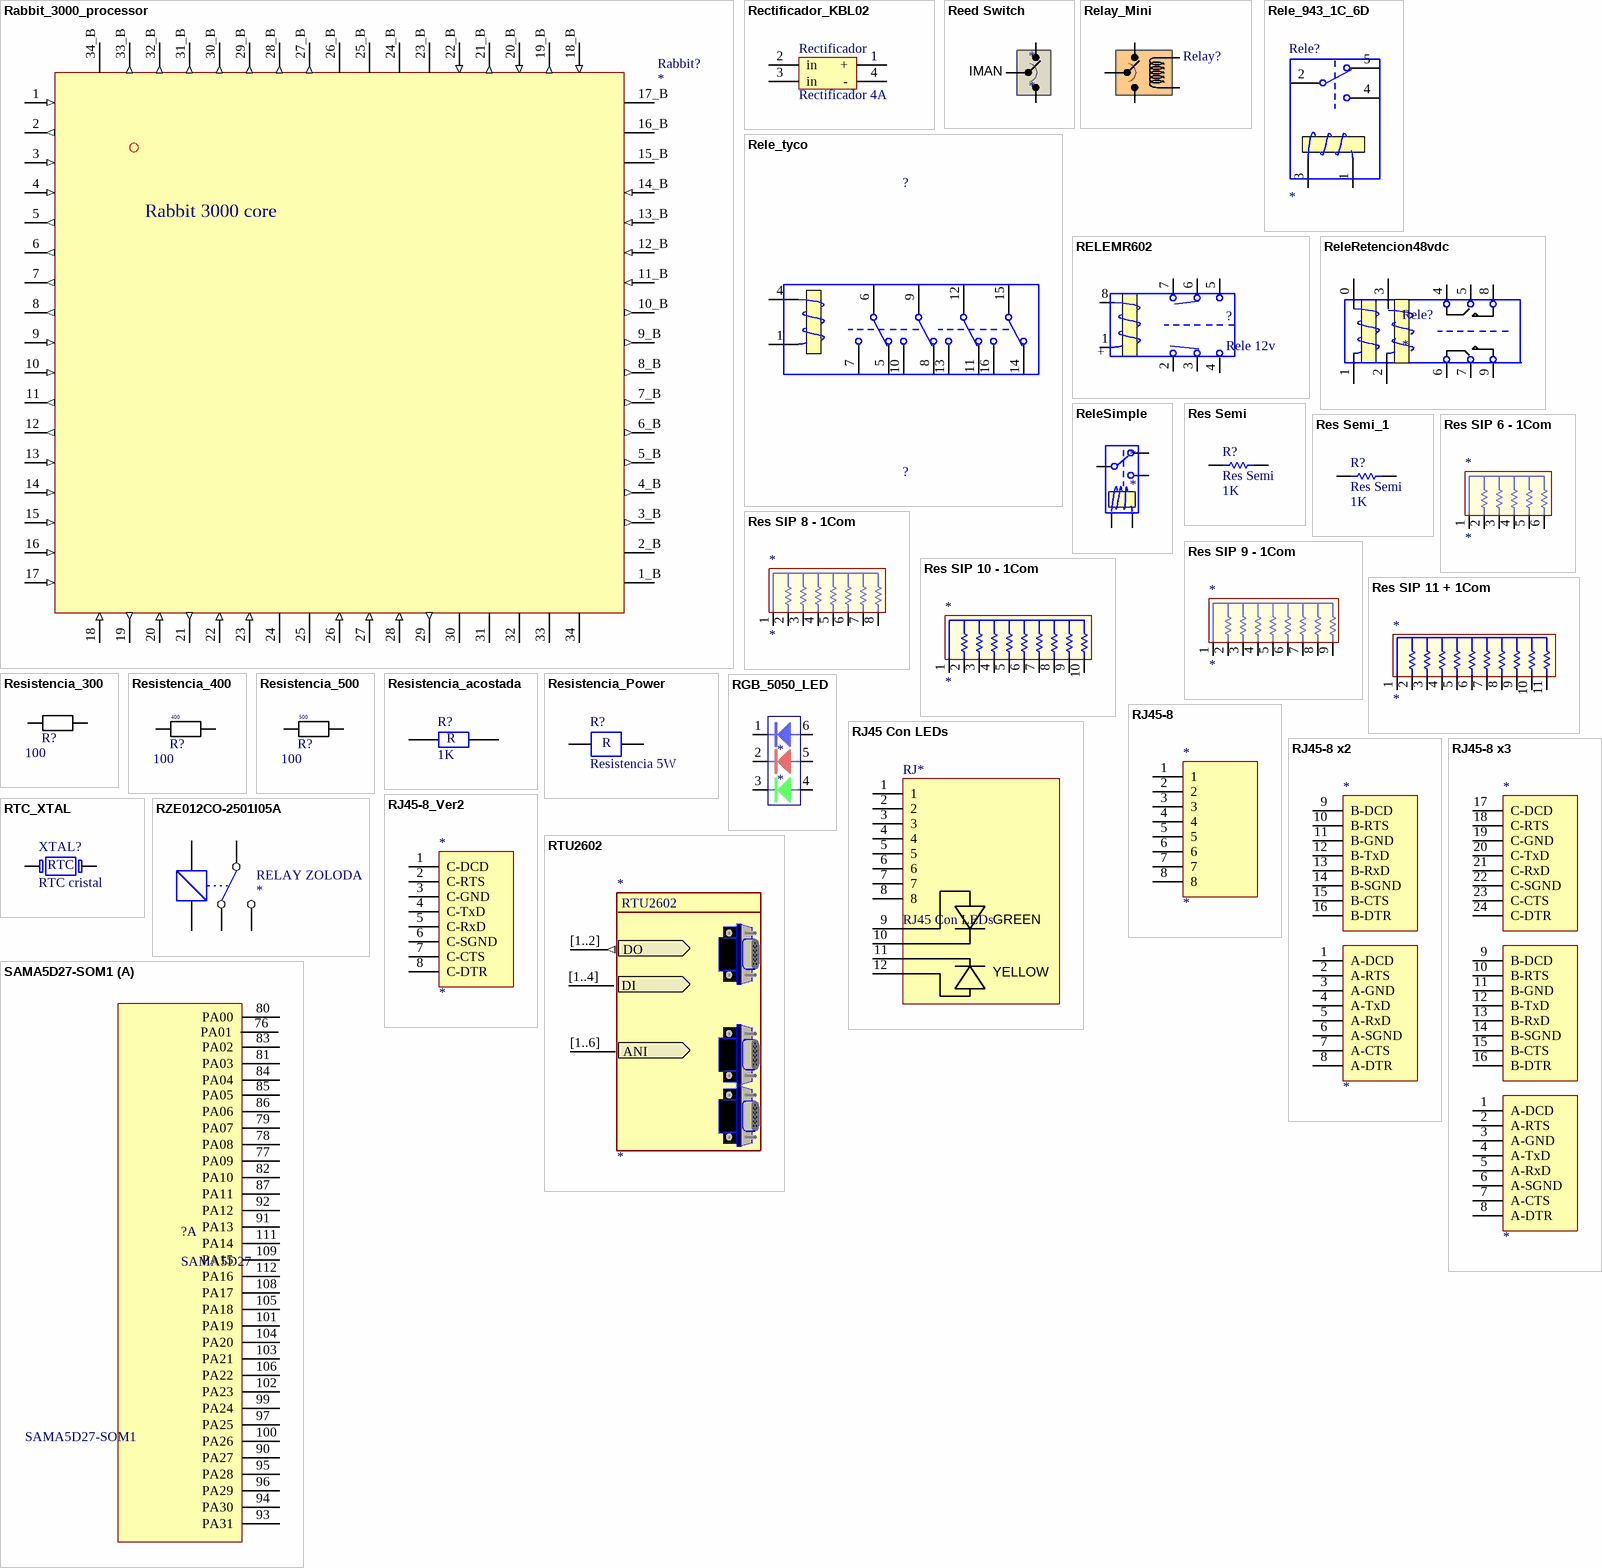
[diagram p13: symbols Rabbit_3000_processor to SAMA5D27-SOM1]

## Rabbit_3000_processor
designator Rabbit?
footprint Rabbit 3000
pins: 1 ~{RES} (in), 1_B GND (power), 2 PB0 (out), 2_B STATUS**, 3 PB2 (in), 3_B PA7 (out), 4 PB3 (in), 4_B PA6 (out), 5 PB4 (out), 5_B PA5 (out), 6 PB5 (out), 6_B PA4 (out), 7 PB6 (out), 7_B PA3 (out), 8 PB7 (out), 8_B PA2 (out), 9 PF4 (in), 9_B PA1 (out), 10 PF5 (in), 10_B PA0 (out), 11 PF6 (out), 11_B PF3 (in), 12 PF7 (out), 12_B PF2 (in), 13 PE7 (in), 13_B PF1 (in), 14 PE6 (in), 14_B PF0 (in), 15 PE5 (in), 15_B PC0, 16 PE4 (in), 16_B PC1, 17 PE3 (in), 17_B PC2, 18 PE1 (in), 18_B PC3 (in), 19 PE0 (out), 19_B PC4 (out), 20 PG7 (in), 20_B PC5 (in), 21 PG6 (out), 21_B PC6 (out), 22 PG5 (in), 22_B PC7 (in), 23 PG4 (in), 23_B PG0, 24 ~{IOWR}, 24_B PG1, 25 I~{ ORD}, 25_B PG2, 26 SMODE0 (in), 26_B PG3, 27 SMODE1 (in), 27_B PD4 (out), 28 ~{RESET_IN} (in), 28_B PD5 (out), 29 VRAM (out), 29_B PD2 (out), 30 VBAT_EXT (power), 30_B PD3 (out), 31 +3.3V (power), 31_B PD6 (out), 32 GND (power), 32_B PD7 (out), 33 N.C., 33_B PD0 (out), 34 GND (power), 34_B PD1
text: Rabbit 3000 core

## Rectificador_KBL02
designator Rectificador, comment Rectificador 4A
footprint KBL0x
pins: 1 +, 2 in, 3 in, 4 -

## Reed Switch
designator *
ReedSwitch
footprint Reed Switch Barato
footprint ORD324 (Reed  Switch)
pins: 1, 2
text: IMAN

## Relay_Mini
designator Relay?  (value not drawn)
Relay
footprint Relay_Mini
pins: C, L1, L2, NC, NO

## Rele_943_1C_6D
designator Rele?
footprint Rele
pins: 1, 2, 3, 4, 5

## Rele_tyco
designator ?, comment ?
footprint DIP10
pins: 1 T2, 4 T1, 5, 6, 7, 8, 9, 10, 11, 12, 13, 14, 15, 16

## RELEMR602
designator ?, comment Rele 12v
footprint RELEpol1
pins: 1, 2, 3, 4, 5, 6, 7, 8
text: +

## ReleRetencion48vdc
designator Rele?
footprint BaseReleDIPV1
pins: 0, 1, 2, 3, 4, 5, 6, 7, 8, 9

## ReleSimple
designator *
pins: 1, 2, 3, 4, 5

## Res Semi
designator R?  value 1K
Semiconductor Resistor; Published: 8-Jun-2000; LatestRevisionDate: 17-Jul-2002; LatestRevisionNote: Re-released for DXP Platform.; PackageReference: AXIAL-0.5; Publisher: Altium Limited
footprint AXIAL-0.5 (Semiconductor Resistor; 2 Leads)
footprint 1005[0402] (Chip Resistor; Body 1.1 x 0.5 mm (LxW typ))
footprint 1608[0603] (Chip Resistor; Body 1.6 x 0.8 mm (LxW typ))
footprint 2012[0805] (Chip Resistor; Body 2.0 x 1.3 mm (LxW typ))
footprint 3216[1206] (Chip Resistor; Body 3.2 x 1.6 mm (LxW typ))
simulation model RES (Semiconductor Resistor)
signal-integrity model Res Semi
footprint 3216[1206] (Chip Resistor; Body 3.2 x 1.6 mm (LxW typ))
pins: 1, 2

## Res Semi_1
designator R?, comment Res Semi  value 1K
Semiconductor Resistor; Published: 8-Jun-2000; LatestRevisionDate: 17-Jul-2002; LatestRevisionNote: Re-released for DXP Platform.; PackageReference: AXIAL-0.5; Publisher: Altium Limited
footprint AXIAL-0.5 (Semiconductor Resistor; 2 Leads)
footprint 1005[0402] (Chip Resistor; Body 1.1 x 0.5 mm (LxW typ))
footprint 1608[0603] (Chip Resistor; Body 1.6 x 0.8 mm (LxW typ))
footprint 2012[0805] (Chip Resistor; Body 2.0 x 1.3 mm (LxW typ))
footprint 3216[1206] (Chip Resistor; Body 3.2 x 1.6 mm (LxW typ))
simulation model RES (Semiconductor Resistor)
signal-integrity model Res Semi
footprint 3216[1206] (Chip Resistor; Body 3.2 x 1.6 mm (LxW typ))
pins: 1, 2

## Res SIP 6 - 1Com
designator *
footprint RES-SIP6
pins: 1, 2, 3, 4, 5, 6

## Res SIP 8 - 1Com
designator *
footprint RES-SIP8 (1Com-7Res-SIP)
pins: 1, 2, 3, 4, 5, 6, 7, 8

## Res SIP 9 - 1Com
designator *
footprint RES-SIP9 (1Com-9Res-SIP)
pins: 1, 2, 3, 4, 5, 6, 7, 8, 9

## Res SIP 10 - 1Com
designator *
footprint RES-SIP10 (1Com-9Res-SIP)
pins: 1, 2, 3, 4, 5, 6, 7, 8, 9, 10

## Res SIP 11 + 1Com
designator *
footprint RES-SIP10 (1Com-9Res-SIP)
pins: 1, 2, 3, 4, 5, 6, 7, 8, 9, 10, 11

## Resistencia_300
designator R?  value 100  (hidden comment: *)
Resistencia Through-Hole; Power: 1/8W
footprint Resistencia_300
footprint Resistencia Vertical
pins: 1, 2

## Resistencia_400
designator R?  value 100  (hidden comment: *)
Resistencia Through-Hole; Power: 1/4W
footprint Resistencia_400
footprint Resistencia Vertical
pins: 1, 2
text: 400

## Resistencia_500
designator R?  value 100  (hidden comment: *)
Resistencia Through-Hole; Power: 1/4W
footprint Resistencia_500
pins: 1, 2
text: 500

## Resistencia_acostada
designator R?, comment 1K
footprint Resitencia_comun
pins: 1, 2
text: R

## Resistencia_Power
designator R?, comment Resistencia 5W
footprint Radial_power
pins: 1, 2
text: R

## RGB_5050_LED
designator *
footprint LED_RGB_5050
pins: 1, 2, 3, 4, 5, 6

## RJ45 Con LEDs
designator RJ*
Conector RJ45 con LEDs de estado
footprint RJ45 LED
footprint RJ45 Sin Marca
pins: 1, 2, 3, 4, 5, 6, 7, 8, 9 LV+, 10 LV-, 11 LA-, 12 LA+
text: GREEN; YELLOW

## RJ45-8
designator *
footprint RJ45V
pins: 1, 2, 3, 4, 5, 6, 7, 8

## RJ45-8 x2
designator *
footprint RJ45X2
footprint RJ45X2
pins: 1 A-DCD, 2 A-RTS, 3 A-GND, 4 A-TxD, 5 A-RxD, 6 A-SGND, 7 A-CTS, 8 A-DTR, 9 B-DCD, 10 B-RTS, 11 B-GND, 12 B-TxD, 13 B-RxD, 14 B-SGND, 15 B-CTS, 16 B-DTR

## RJ45-8 x3
designator *
pins: 1 A-DCD, 2 A-RTS, 3 A-GND, 4 A-TxD, 5 A-RxD, 6 A-SGND, 7 A-CTS, 8 A-DTR, 9 B-DCD, 10 B-RTS, 11 B-GND, 12 B-TxD, 13 B-RxD, 14 B-SGND, 15 B-CTS, 16 B-DTR, 17 C-DCD, 18 C-RTS, 19 C-GND, 20 C-TxD, 21 C-RxD, 22 C-SGND, 23 C-CTS, 24 C-DTR

## RJ45-8_Ver2
designator *
footprint RJ45V
pins: 1 C-DCD, 2 C-RTS, 3 C-GND, 4 C-TxD, 5 C-RxD, 6 C-SGND, 7 C-CTS, 8 C-DTR

## RTC_XTAL
designator XTAL?, comment RTC cristal
footprint ECS3x8x
pins: 1, 2
text: RTC

## RTU2602
designator *
pins: [1..2] DO (out), [1..4] DI, [1..6] ANI

## RZE012CO-2501I05A
designator RELAY ZOLODA
12Vcc ( 6A - 250 Vca ) ( 8A - 30Vcc )
footprint Relay Zoloda (RZE012CO-2501I05A)
pins: 1 A1, 2 A2, 3 NC, 4 COM, 5 NA

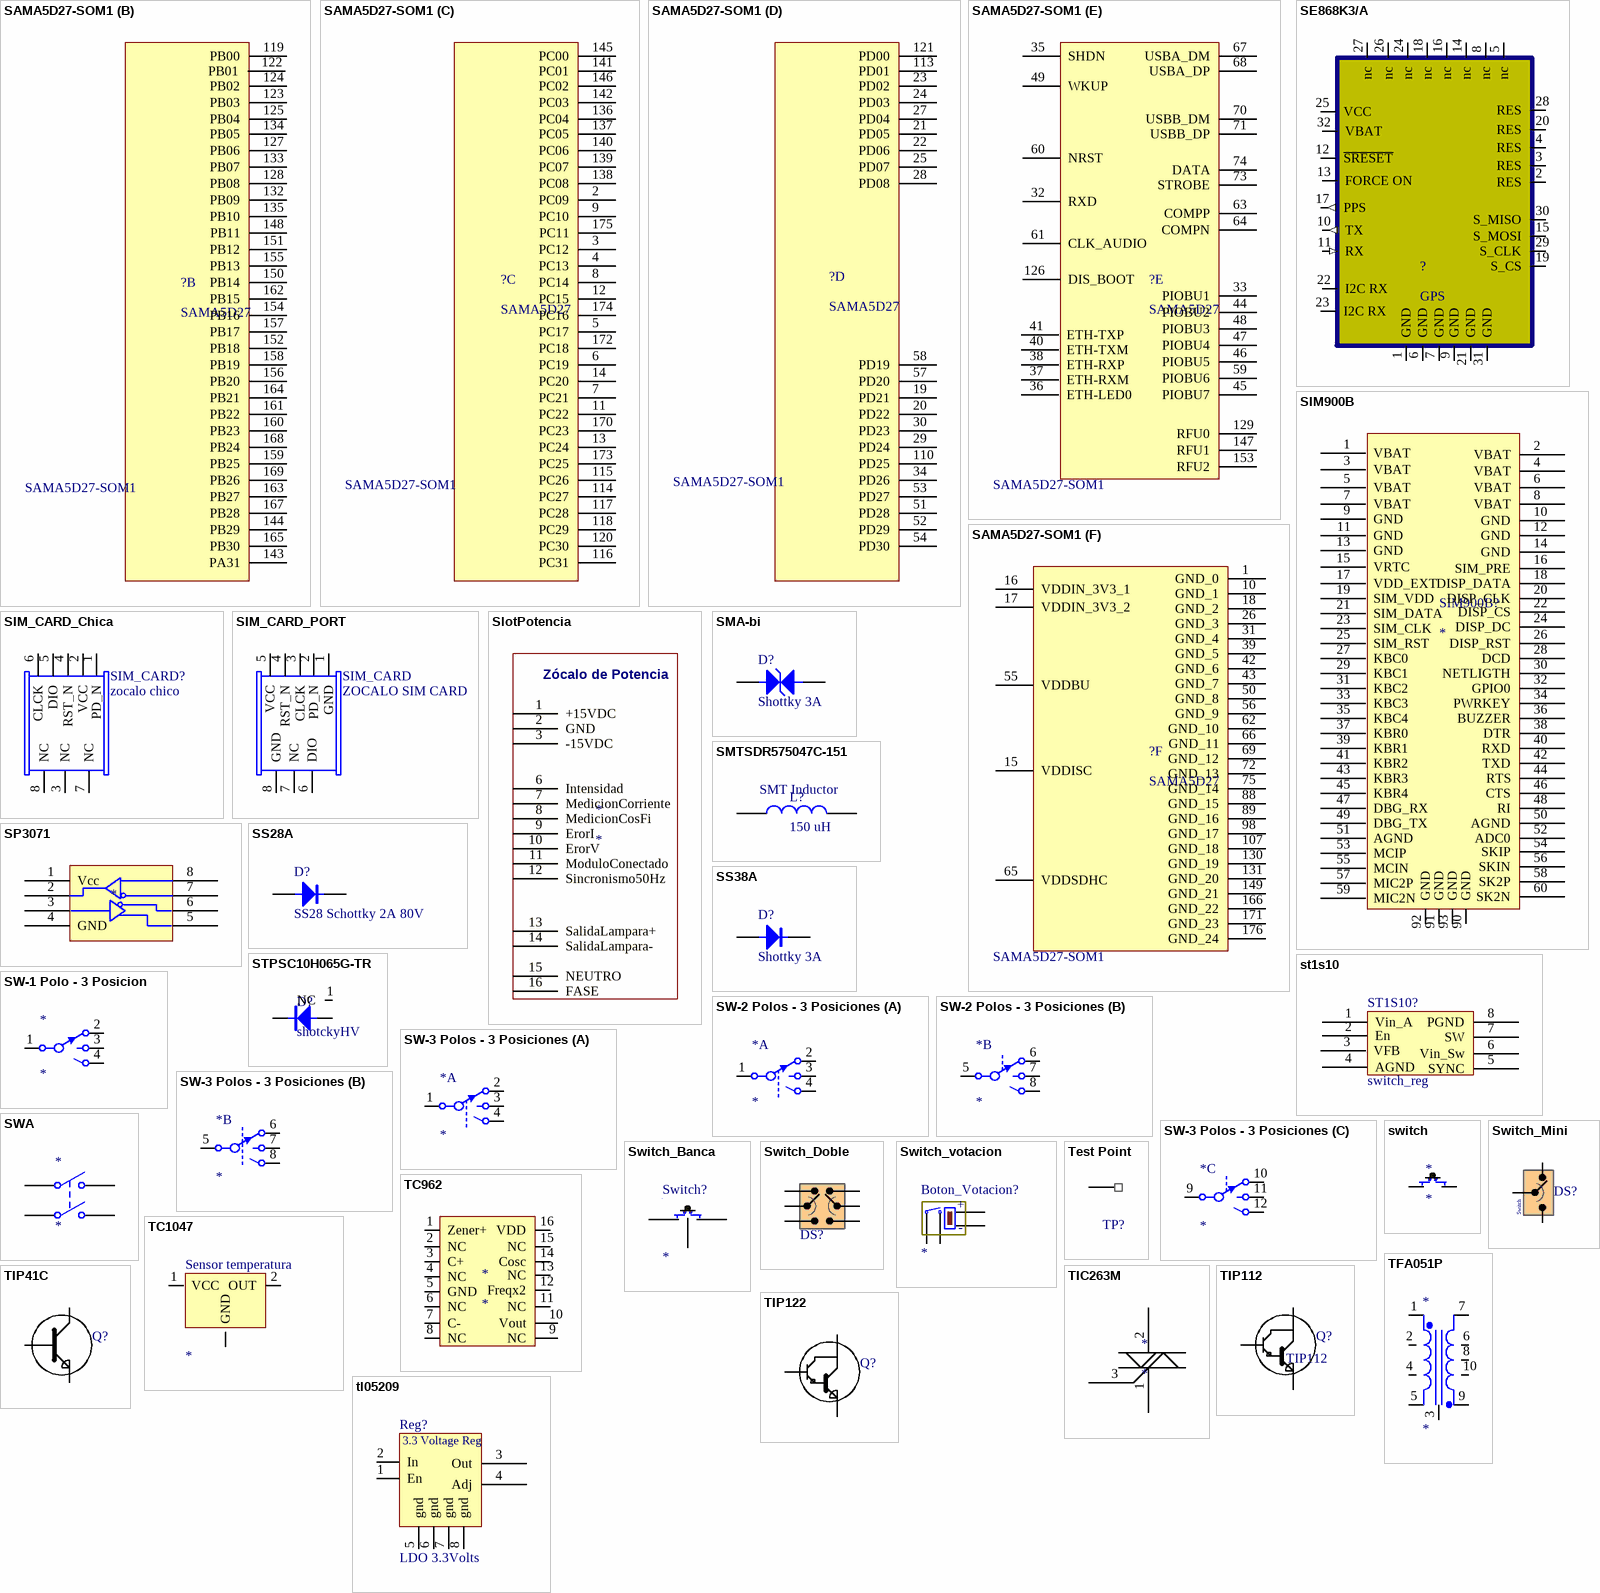
[diagram p14: symbols SAMA5D27-SOM1 to tl05209]

## SAMA5D27-SOM1
designator ?, comment SAMA5D27  value SAMA5D27-SOM1
Numero de Parte Fabricante: ATSAMA5D27-SOM1; Descripcion: MCHP MCU 32-BIT SOM 500MHz 128kB ETHERNET EEPROM ATSAMA5D27-SOM1 MODULE; Tipo: 32-Bit System-on-Module; Revicion: A
footprint MOD SOM SAMA5D27-SOM1 40MMX38MM
part A pins: 76 PA01, 77 PA09, 78 PA08, 79 PA07, 80 PA00, 81 PA03, 82 PA10, 83 PA02, 84 PA04, 85 PA05, 86 PA06, 87 PA11, 90 PA27, 91 PA13, 92 PA12, 93 PA31, 94 PA30, 95 PA28, 96 PA29, 97 PA25, 99 PA24, 100 PA26, 101 PA19, 102 PA23, 103 PA21, 104 PA20, 105 PA18, 106 PA22, 108 PA17, 109 PA15, 111 PA14, 112 PA16
part B pins: 119 PB00, 122 PB01, 123 PB03, 124 PB02, 125 PB04, 127 PB06, 128 PB08, 132 PB09, 133 PB07, 134 PB05, 135 PB10, 143 PA31, 144 PB29, 148 PB11, 150 PB14, 151 PB12, 152 PB18, 154 PB16, 155 PB13, 156 PB20, 157 PB17, 158 PB19, 159 PB25, 160 PB23, 161 PB22, 162 PB15, 163 PB27, 164 PB21, 165 PB30, 167 PB28, 168 PB24, 169 PB26
part C pins: 2 PC09, 3 PC12, 4 PC13, 5 PC17, 6 PC19, 7 PC21, 8 PC14, 9 PC10, 11 PC22, 12 PC15, 13 PC24, 14 PC20, 114 PC27, 115 PC26, 116 PC31, 117 PC28, 118 PC29, 120 PC30, 136 PC04, 137 PC05, 138 PC08, 139 PC07, 140 PC06, 141 PC01, 142 PC03, 145 PC00, 146 PC02, 170 PC23, 172 PC18, 173 PC25, 174 PC16, 175 PC11
part D pins: 19 PD21, 20 PD22, 21 PD05, 22 PD06, 23 PD02, 24 PD03, 25 PD07, 27 PD04, 28 PD08, 29 PD24, 30 PD23, 34 PD26, 51 PD28, 52 PD29, 53 PD27, 54 PD30, 57 PD20, 58 PD19, 110 PD25, 113 PD01, 121 PD00
part E pins: 32 RXD, 33 PIOBU1, 35 SHDN, 36 ETH-LED0, 37 ETH-RXM, 38 ETH-RXP, 40 ETH-TXM, 41 ETH-TXP, 44 PIOBU2, 45 PIOBU7, 46 PIOBU5, 47 PIOBU4, 48 PIOBU3, 49 WKUP, 59 PIOBU6, 60 NRST, 61 CLK_AUDIO, 63 COMPP, 64 COMPN, 67 USBA_DM, 68 USBA_DP, 70 USBB_DM, 71 USBB_DP, 73 STROBE, 74 DATA, 126 DIS_BOOT, 129 RFU0, 147 RFU1, 153 RFU2
part F pins: 1 GND_0, 10 GND_1, 15 VDDISC, 16 VDDIN_3V3_1, 17 VDDIN_3V3_2, 18 GND_2, 26 GND_3, 31 GND_4, 39 GND_5, 42 GND_6, 43 GND_7, 50 GND_8, 55 VDDBU, 56 GND_9, 62 GND_10, 65 VDDSDHC, 66 GND_11, 69 GND_12, 72 GND_13, 75 GND_14, 88 GND_15, 89 GND_16, 98 GND_17, 107 GND_18, 130 GND_19, 131 GND_20, 149 GND_21, 166 GND_22, 171 GND_23, 176 GND_24

## SE868K3/A
designator ?, comment GPS
footprint GPS_TELIT
pins: 1 GND, 2 RES, 3 RES, 4 RES, 5 nc, 6 GND, 7 GND, 8 nc, 9 GND, 10 TX (out), 11 RX (in), 12 ~{SRESET}, 13 FORCE ON, 14 nc, 15 S_MOSI, 16 nc, 17 PPS (out), 18 nc, 19 S_CS, 20 RES, 21 GND, 22 I2C RX, 23 I2C RX, 24 nc, 25 VCC, 26 nc, 27 nc, 28 RES, 29 S_CLK, 30 S_MISO, 31 GND, 32 VBAT

## SIM900B
designator SIM900B?
footprint SIM900B
pins: 1 VBAT, 2 VBAT, 3 VBAT, 4 VBAT, 5 VBAT, 6 VBAT, 7 VBAT, 8 VBAT, 9 GND, 10 GND, 11 GND, 12 GND, 13 GND, 14 GND, 15 VRTC, 16 SIM_PRE, 17 VDD_EXT, 18 DISP_DATA, 19 SIM_VDD, 20 DISP_CLK, 21 SIM_DATA, 22 DISP_CS, 23 SIM_CLK, 24 DISP_DC, 25 SIM_RST, 26 DISP_RST, 27 KBC0, 28 DCD, 29 KBC1, 30 NETLIGTH, 31 KBC2, 32 GPIO0, 33 KBC3, 34 PWRKEY, 35 KBC4, 36 BUZZER, 37 KBR0, 38 DTR, 39 KBR1, 40 RXD, 41 KBR2, 42 TXD, 43 KBR3, 44 RTS, 45 KBR4, 46 CTS, 47 DBG_RX, 48 RI, 49 DBG_TX, 50 AGND, 51 AGND, 52 ADC0, 53 MCIP, 54 SKIP, 55 MCIN, 56 SKIN, 57 MIC2P, 58 SK2P, 59 MIC2N, 60 SK2N, 90 GND, 91 GND, 92 GND, 93 GND

## SIM_CARD_Chica
designator SIM_CARD?, comment zocalo chico
footprint Socalo_SIM_chico
pins: 1 PD_N, 2 VCC, 3 NC, 4 RST_N, 5 DIO, 6 CLCK, 7 NC, 8 NC

## SIM_CARD_PORT
designator SIM_CARD, comment ZOCALO SIM CARD
footprint SMD_zocalo
pins: 1 GND, 2 PD_N, 3 CLCK, 4 RST_N, 5 VCC, 6 DIO, 7 NC, 8 GND

## SlotPotencia
designator *
Slot de potencia para la placa RTU2812
footprint SlotPotencia
pins: 1 +15VDC, 2 GND, 3 -15VDC, 6 Intensidad, 7 MedicionCorriente, 8 MedicionCosFi, 9 ErorI, 10 ErorV, 11 ModuloConectado, 12 Sincronismo50Hz, 13 SalidaLampara+, 14 SalidaLampara-, 15 NEUTRO, 16 FASE
text: Zócalo de Potencia

## SMA-bi
designator D?, comment Shottky 3A
footprint SMA
pins: 1, 2

## SMTSDR575047C-151
designator L?, comment 150 uH
SMTSDR505747C Series 6x5mm SMT Inductor
footprint SMTSDR575047C (Inductor)
pins: 1, 2
text: SMT Inductor

## SP3071
designator *  (value not drawn)
Transceiver RS-485 SMD
pins: 1 Vcc, 2 R, 3 D, 4 GND, 5 Y, 6 Z, 7 B, 8 A

## SS28A
designator D?, comment SS28 Schottky 2A 80V
Diodo Schottky 2A 80V
footprint SMA
pins: 1, 2

## SS38A
designator D?, comment Shottky 3A
footprint SMA
pins: 1, 2

## st1s10
designator ST1S10?, comment switch_reg
footprint SOIC8 (Footprint not found)
pins: 1 Vin_A, 2 En, 3 VFB, 4 AGND, 5 SYNC, 6 Vin_Sw, 7 SW, 8 PGND

## STPSC10H065G-TR
designator D?, comment shotckyHV
footprint D2PACK
pins: 1 NC, 2, 3

## SW-1 Polo - 3 Posicion
designator *
1 Polo - 3 Posicion
pins: 1, 2, 3, 4

## SW-2 Polos - 3 Posiciones
designator *
2 Polos - 3 Posiciones
part A pins: 1, 2, 3, 4
part B pins: 5, 6, 7, 8

## SW-3 Polos - 3 Posiciones
designator *
3 Polos - 3 Posiciones
part A pins: 1, 2, 3, 4
part B pins: 5, 6, 7, 8
part C pins: 9, 10, 11, 12

## SWA
designator *
footprint sw
pins: 1 COMMON1, 2 COMMON2, 3 NO1, 4 NO2

## switch
designator *
footprint RedSwitch
pins: 1, 2

## Switch_Banca
designator Switch?
footprint Conector_paso_doblex3
pins: 1, 2, 3

## Switch_Doble
designator DS?  (value not drawn)
Llave doble
footprint Switch_Doble
pins: C1, C2, D1, D2, U1, U2

## Switch_Mini
designator DS?  (value not drawn)
Llave
footprint Switch_Mini
pins: 1, 2, C
text: Switch

## Switch_votacion
designator Boton_Votacion?
footprint Conector_Alim
pins: 1, 2, 3, 4
text: +; -

## TC962
designator *
pins: 1 Zener+, 2 NC, 3 C+, 4 NC, 5 GND, 6 NC, 7 C-, 8 NC, 9 NC, 10 Vout, 11 NC, 12 Freqx2, 13 NC, 14 Cosc, 15 NC, 16 VDD

## TC1047
designator Sensor temperatura
footprint 3-pin_sot
pins: 1 VCC, 2 OUT, 3 GND

## Test Point
designator TP?  (value not drawn)
Punto de prueba en placa
footprint testpoint - duplicate
pins: 1

## TFA051P
designator *
footprint TFA051P
pins: 1 Pri1+, 2 Pri1+, 3 Pant, 4 Pri2+, 5 Pri-, 6 Sec2+, 7 Sec1+, 8 Sec3+, 9 Sec-, 10 Sec4+

## TIC263M
designator *
TRIAC
footprint SOT93
footprint SOT93 + Heatsink
footprint TO220
pins: 1 MT1, 2 MT2, 3

## TIP41C
designator Q?  (value not drawn)
Transistor NPN
footprint TIP41
pins: B, C, E

## TIP112
designator Q?
Transistor NPN; Collector Emitter Voltage Max: 100V; Collector Current: 2A; Max Power: 50W
footprint TIP122
pins: B, C, E

## TIP122
designator Q?  (value not drawn)
Transistor NPN Darlington de 50W max
footprint TIP122
pins: B, C, E

## tl05209
designator Reg?, comment LDO 3.3Volts
footprint SO-G8
pins: 1 En, 2 In, 3 Out, 4 Adj, 5 gnd, 6 gnd, 7 gnd, 8 gnd
text: 3.3 Voltage Reg

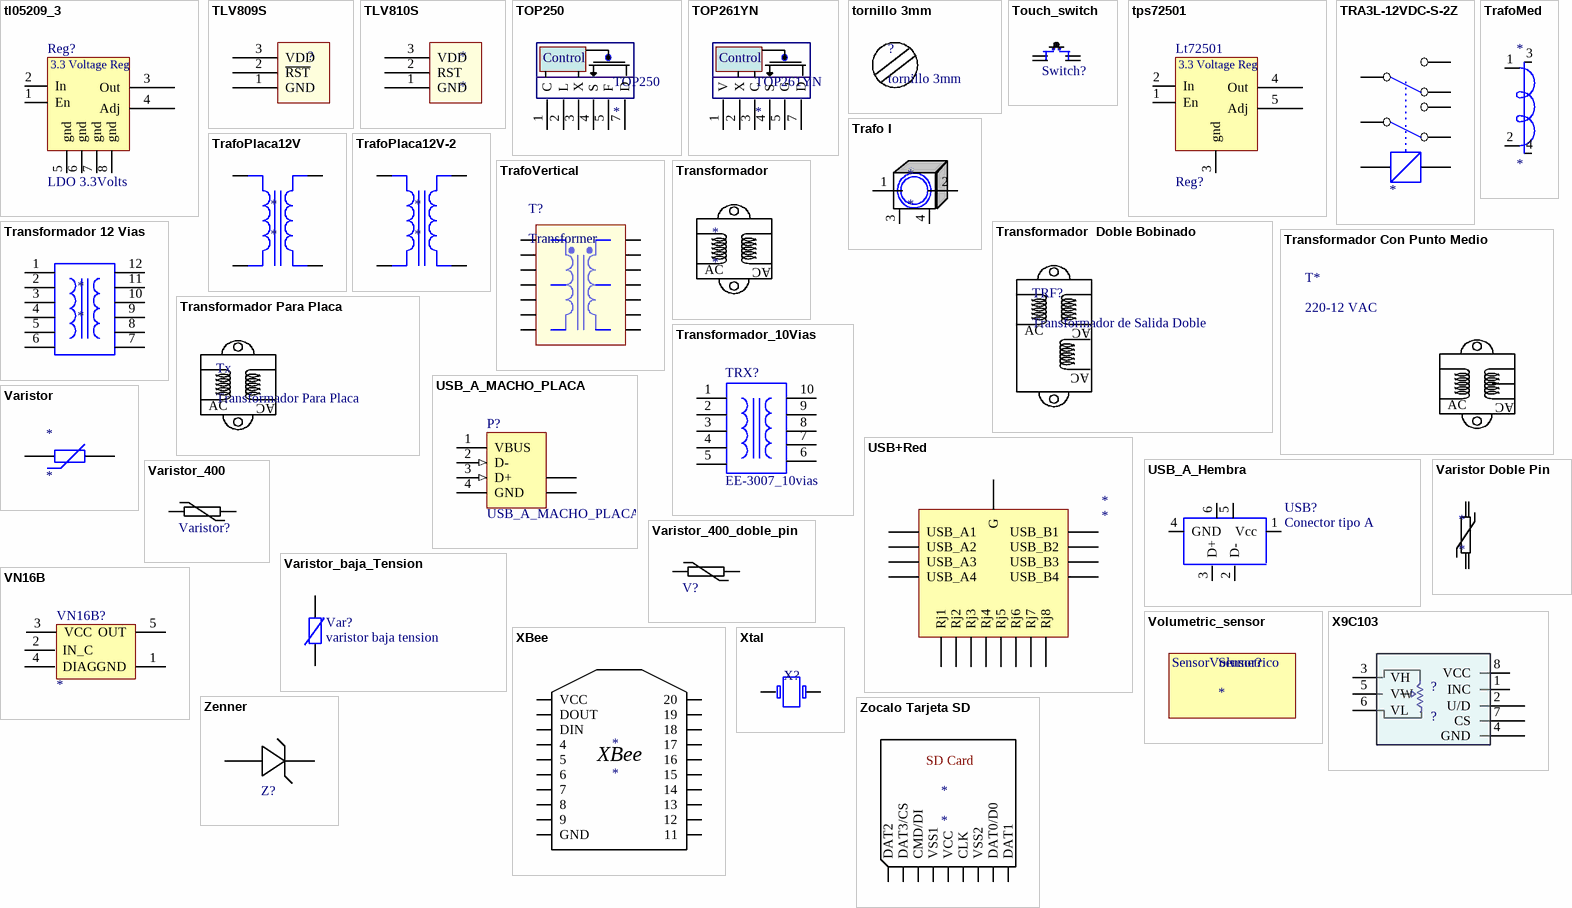
[diagram p15: symbols tl05209_3 to Zocalo Tarjeta SD]

## tl05209_3
designator Reg?, comment LDO 3.3Volts
footprint SO-G8
pins: 1 En, 2 In, 3 Out, 4 Adj, 5 gnd, 6 gnd, 7 gnd, 8 gnd
text: 3.3 Voltage Reg

## TLV809S
designator ?
Voltage supervisor con reset negado
footprint 3-pin_sot
pins: 1 GND, 2 ~{RST}, 3 VDD

## TLV810S
designator *
Voltage Supervisor con reset positivo
footprint 3-pin_sot
pins: 1 GND, 2 RST, 3 VDD

## TOP250
designator TOP250
footprint TO220-7
pins: 1 C, 2 L, 3 X, 4 S, 5 F, 7 D
text: Control

## TOP261YN
designator TOP261YN
footprint TO220-7Vert
pins: 1 V, 2 X, 3 C, 4 S, 5 G, 7 D
text: Control

## tornillo 3mm
designator ?
footprint tornillo 3mm

## Touch_switch
designator Switch?, comment touch switch  (value not drawn)
footprint Touch_switch
pins: 1, 2, 3, 4

## tps72501
designator Lt72501, comment Reg?
footprint D_PACK_5
pins: 1 En, 2 In, 3 gnd, 4 Out, 5 Adj
text: 3.3 Voltage Reg

## TRA3L-12VDC-S-2Z
designator ?
pins: 1 NO1, 2 COM1, 3 NC1, 4 B1, 5 B2, 6 NC2, 7 COM2, 8 NO2

## Trafo I
designator *
footprint SensorITrafo
pins: 1, 2, 3, 4

## TrafoMed
designator *
0 a 10A
footprint TRAFO MEDICION (0 a 10A)
pins: 1 B1, 2 B2, 3 C1, 4 C2

## TrafoPlaca12V
designator *
footprint TrafoPlaca12V (Transformador 12V para Placa)
pins: 1, 2, 3, 4

## TrafoPlaca12V-2
designator *
footprint TRAFO12VPLACA (Transformador 12V sobre Placa)
pins: 1, 5 2, 6 3, 10 4

## TrafoVertical
designator T?, comment Transformer
footprint TrafoVertical
pins: 0, 1, 2, 3, 4, 5, 6, 7, 8, 9, 10, 11, 12, 13

## Transformador
designator *
Transformador
footprint Transformador 1W
pins: L1, L1, L2, L2
text: AC

## Transformador 12 Vias
designator *
footprint Trx_12vias
pins: 1, 2, 3, 4, 5, 6, 7, 8, 9, 10, 11, 12

## Transformador  Doble Bobinado
designator TRF?, comment Transformador de Salida Doble
Transformador
footprint Transformador Doble Bobinado
pins: IN1, IN2, OUT1, OUT2, OUTB1, OUTB2
text: AC

## Transformador Con Punto Medio
designator T*, comment 220-12 VAC
Transformador
footprint Transformado con punto medio
pins: 0, 1, 2, 3, 4
text: AC

## Transformador Para Placa
designator Tx
Transformador
footprint Transformador para Placa
pins: IN1, IN2, OUT1, OUT2
text: AC

## Transformador_10Vias
designator TRX?, comment EE-3007_10vias
footprint Trx_10vias
pins: 1, 2, 3, 4, 5, 6, 7, 8, 9, 10

## USB+Red
designator *
Conector de USB+Red
footprint USB+Red
pins: G, Rj1, Rj2, Rj3, Rj4, Rj5, Rj6, Rj7, Rj8, USB_A1, USB_A2, USB_A3, USB_A4, USB_B1, USB_B2, USB_B3, USB_B4

## USB_A_Hembra
designator USB?, comment Conector tipo A
footprint USB5075BR
pins: 1 Vcc, 2 D-, 3 D+, 4 GND, 5, 6

## USB_A_MACHO_PLACA
designator P?
USB 1.1, Right Angle, SMT, A Type, Plug, 4 Position, Natural; ContactMaterial: Brass; ContactPlating: Gold (30) over Nickel (50); PCB_Layout: Complies with manufacturer's recommendation.; DrillSize: Corresponds to nominal value.; PanelGround: Without; Published: 15-Jul-2004; DatasheetDocument: 21-Jan-2003; PackageDocument: 21-Jan-2003; PackageReference: 1470695; Publisher: Altium Limited; HousingMaterial: Thermoplastic; ComponentLink1Description: Manufacturer Link; ComponentLink1URL: http://www.tycoelectronics.com/; ComponentLink2Description: Packaging Specification; ComponentLink2URL: http://ecommas.tycoelectronics.com/commerce/DocumentDelivery/DDEController?Action=showdoc&DocId=Customer+Drawing%7F1470695%7FO%7Fpdf%7FEnglish%7FC_1470695_O.pdf
footprint USB_MACHO_PLACA (Connector; USB1.1, Type A, SM; 4 Position; Right Angle)
signal-integrity model USB1.1
pins: 1 VBUS (power) "Power", 2 D- (in) "-DATA", 3 D+ (in) "+DATA", 4 GND (power) "Ground", 5 SHLD "Shield", 6 SHLD "Shield"

## Varistor
designator *
footprint VR LA2
3D model SW3dPS-SL22_1R020 (PCB3D Model)
pins: 1, 2

## Varistor Doble Pin
designator *
footprint Varistor Doble Pin
pins: 1, 1b 4, 2, 2b 3

## Varistor_400
designator Varistor?  (value not drawn)
Varistor
footprint Varistor_400
pins: 1, 2

## Varistor_400_doble_pin
designator V?  (value not drawn)
Varistor
footprint Varistor_400 - doble pin
pins: 1, 2, 3 hidden to 1

## Varistor_baja_Tension
designator Var?, comment varistor baja tension
footprint Varistor
pins: 1, 2

## VN16B
designator VN16B?
footprint SFM-T5/X1.4V
pins: 1 GND, 2 IN_C, 3 VCC, 4 DIAG, 5 OUT

## Volumetric_sensor
designator Sensor?
footprint Volumetric_Sensor
text: SensorVolumetrico

## X9C103
designator ?, comment ?
footprint so8
pins: 1 INC, 2 U/D, 3 VH, 4 GND, 5 VW, 6 VL, 7 CS, 8 VCC

## XBee
designator *
Módulo inalámbrico XBee
footprint XbeePRO
footprint XbeePRO Doble Pin
pins: 1 VCC, 2 DOUT, 3 DIN, 4, 5, 6, 7, 8, 9, 10 GND, 11, 12, 13, 14, 15, 16, 17, 18, 19, 20

## Xtal
designator X?  (value not drawn)
Cristal
footprint XTal16MHz
pins: 1, 2

## Zenner
designator Z?  (value not drawn)
Diodo sener through-hole
footprint Diodo
pins: A, K

## Zocalo Tarjeta SD
designator *
Zócalo para tarjeta Secure Digital
pins: 1 DAT3/CS, 2 CMD/DI, 3 VSS1, 4 VCC, 5 CLK, 6 VSS2, 7 DAT0/D0, 8 DAT1, 9 DAT2
text: SD Card